# Altium schematic symbol library Protection.SchLib: 5 symbols
Pins are listed as number, name and electrical type; pins without a type are passive.

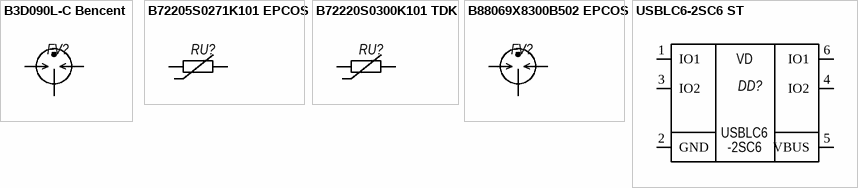
[diagram p0: symbols B3D090L-C Bencent to USBLC6-2SC6 ST]

## B3D090L-C Bencent
designator FV?  (value not drawn)
footprint B3D
pins: 1, 2, 3

## B72205S0271K101 EPCOS
designator RU?, comment Варистор 275Vrms  (value not drawn)
pins: 1, 2

## B72220S0300K101 TDK
designator RU?, comment Варистор 30Vrms, 38Vdc  (value not drawn)
footprint S20K30
pins: 1, 2

## B88069X8300B502 EPCOS
designator FV?  (value not drawn)
footprint T83
pins: 1, 2, 3

## USBLC6-2SC6 ST
designator DD?  (value not drawn)
footprint SOT23-6
pins: 1 IO1, 2 GND, 3 IO2, 4 IO2, 5 VBUS, 6 IO1
1 alternate drawing of the same symbol
text: VD; USBLC6; -2SC6